# Altium footprint library Package_QFP.PcbLib: 99 footprints (part 2 of 7)
Each footprint in its own frame and in the unit in brackets; x right, y up, seen from the top. Pads: shape width x height; smd on the part's side, far side on the other; paste and mask are expansions set on the pad; w line width, h text height; cw(c..) or ccw(c..) is an arc to the next point about the centre after c.
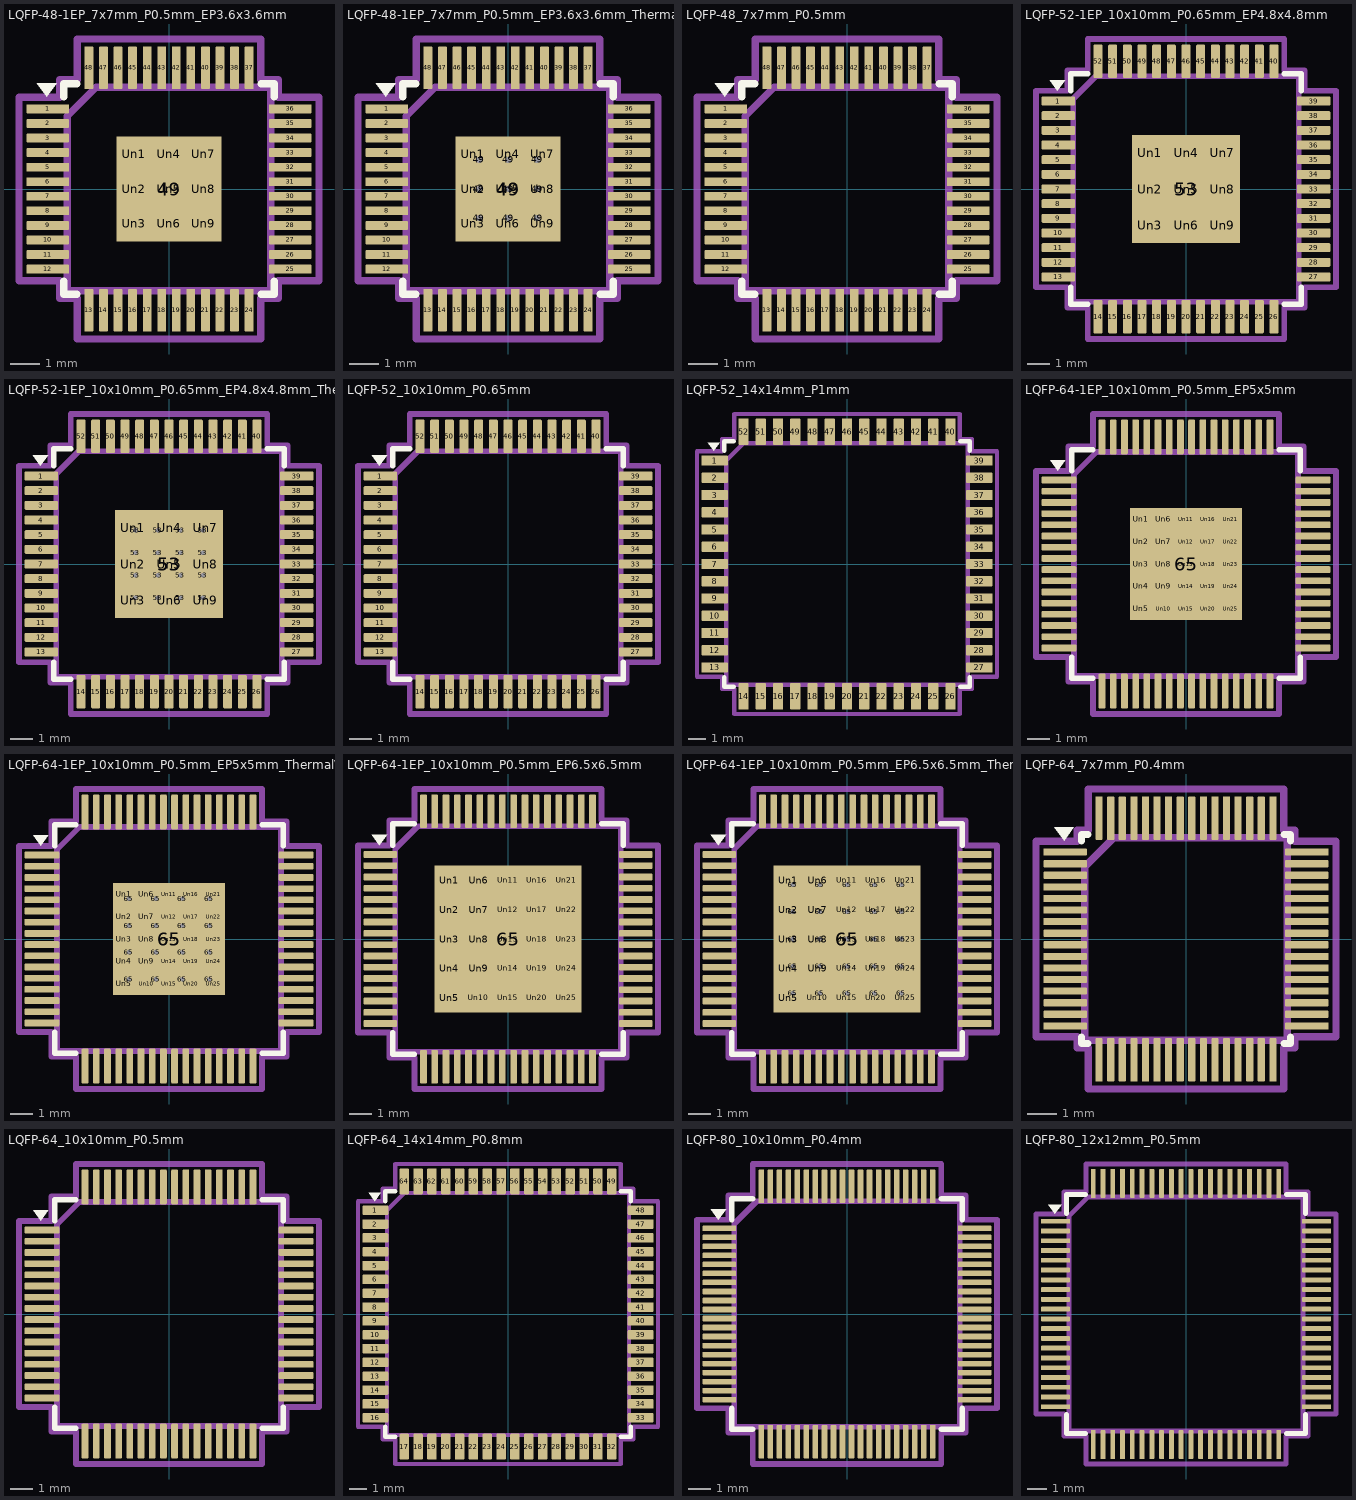
[diagram p1: the footprints below, top view; thin cyan lines are the x and y axes]

## LQFP-48-1EP_7x7mm_P0.5mm_EP3.6x3.6mm [mm]
pads (58):
  rrect25% 1.475x0.3 smd: 1(-4.163,2.75) 2(-4.163,2.25) 3(-4.163,1.75) 4(-4.163,1.25) 5(-4.163,0.75) 6(-4.163,0.25) 7(-4.163,-0.25) 8(-4.163,-0.75) 9(-4.163,-1.25) 10(-4.163,-1.75) 11(-4.163,-2.25) 12(-4.163,-2.75) 25(4.163,-2.75) 26(4.163,-2.25) 27(4.163,-1.75) 28(4.163,-1.25) 29(4.163,-0.75) 30(4.163,-0.25) 31(4.163,0.25) 32(4.163,0.75) 33(4.163,1.25) 34(4.163,1.75) 35(4.163,2.25) 36(4.163,2.75)
  rrect25% 0.3x1.475 smd: 13(-2.75,-4.163) 14(-2.25,-4.163) 15(-1.75,-4.163) 16(-1.25,-4.163) 17(-0.75,-4.163) 18(-0.25,-4.163) 19(0.25,-4.163) 20(0.75,-4.163) 21(1.25,-4.163) 22(1.75,-4.163) 23(2.25,-4.163) 24(2.75,-4.163) 37(2.75,4.163) 38(2.25,4.163) 39(1.75,4.163) 40(1.25,4.163) 41(0.75,4.163) 42(0.25,4.163) 43(-0.25,4.163) 44(-0.75,4.163) 45(-1.25,4.163) 46(-1.75,4.163) 47(-2.25,4.163) 48(-2.75,4.163)
  rect 3.6x3.6 smd: 49(0,0)
  rrect25% 0.97x0.97 on Top Paste: Un1(-1.2,1.2) Un2(-1.2,0) Un3(-1.2,-1.2) Un4(0,1.2) Un5(0,0) Un6(0,-1.2) Un7(1.2,1.2) Un8(1.2,0) Un9(1.2,-1.2)
F.SilkS:
  region: -4.2,3.16 -4.54,3.63 -3.86,3.63
  lines w0.254: -3.61,-3.16 -3.61,-3.61 -3.16,-3.61 ; -3.61,3.16 -3.61,3.61 -3.16,3.61 ; 3.16,-3.61 3.61,-3.61 3.61,-3.16 ; 3.16,3.61 3.61,3.61 3.61,3.16
Top Assembly:
  lines w0.254: -3.5,-3.5 3.5,-3.5 3.5,3.5 -2.5,3.5 -3.5,2.5 -3.5,-3.5
  text "'.Designator'" at -4.047,-0.84 h1
Top Courtyard:
  lines w0.254: -5.15,-3.15 -3.75,-3.15 -3.75,-3.75 -3.15,-3.75 -3.15,-5.15 3.15,-5.15 3.15,-3.75 3.75,-3.75 3.75,-3.15 5.15,-3.15 5.15,3.15 3.75,3.15 3.75,3.75 3.15,3.75 3.15,5.15 -3.15,5.15 -3.15,3.75 -3.75,3.75 -3.75,3.15 -5.15,3.15 -5.15,-3.15
Top Designator:
  text ".Designator" at -7.618,-0.508 h1.52

## LQFP-48-1EP_7x7mm_P0.5mm_EP3.6x3.6mm_ThermalVias [mm]
pads (68):
  rrect25% 1.475x0.3 smd: 1(-4.163,2.75) 2(-4.163,2.25) 3(-4.163,1.75) 4(-4.163,1.25) 5(-4.163,0.75) 6(-4.163,0.25) 7(-4.163,-0.25) 8(-4.163,-0.75) 9(-4.163,-1.25) 10(-4.163,-1.75) 11(-4.163,-2.25) 12(-4.163,-2.75) 25(4.163,-2.75) 26(4.163,-2.25) 27(4.163,-1.75) 28(4.163,-1.25) 29(4.163,-0.75) 30(4.163,-0.25) 31(4.163,0.25) 32(4.163,0.75) 33(4.163,1.25) 34(4.163,1.75) 35(4.163,2.25) 36(4.163,2.75)
  rrect25% 0.3x1.475 smd: 13(-2.75,-4.163) 14(-2.25,-4.163) 15(-1.75,-4.163) 16(-1.25,-4.163) 17(-0.75,-4.163) 18(-0.25,-4.163) 19(0.25,-4.163) 20(0.75,-4.163) 21(1.25,-4.163) 22(1.75,-4.163) 23(2.25,-4.163) 24(2.75,-4.163) 37(2.75,4.163) 38(2.25,4.163) 39(1.75,4.163) 40(1.25,4.163) 41(0.75,4.163) 42(0.25,4.163) 43(-0.25,4.163) 44(-0.75,4.163) 45(-1.25,4.163) 46(-1.75,4.163) 47(-2.25,4.163) 48(-2.75,4.163)
  round 0.5 hole 0.2: 49(-1,-1) 49(-1,0) 49(-1,1) 49(0,-1) 49(0,0) 49(0,1) 49(1,-1) 49(1,0) 49(1,1)
  rect 3.6x3.6 smd: 49(0,0)
  rect 2.5x2.5 smd far side: 49(0,0)
  rrect25% 0.97x0.97 on Top Paste: Un1(-1.2,1.2) Un2(-1.2,0) Un3(-1.2,-1.2) Un4(0,1.2) Un5(0,0) Un6(0,-1.2) Un7(1.2,1.2) Un8(1.2,0) Un9(1.2,-1.2)
F.SilkS:
  region: -4.2,3.16 -4.54,3.63 -3.86,3.63
  lines w0.254: -3.61,-3.16 -3.61,-3.61 -3.16,-3.61 ; -3.61,3.16 -3.61,3.61 -3.16,3.61 ; 3.16,-3.61 3.61,-3.61 3.61,-3.16 ; 3.16,3.61 3.61,3.61 3.61,3.16
Top Assembly:
  lines w0.254: -3.5,-3.5 3.5,-3.5 3.5,3.5 -2.5,3.5 -3.5,2.5 -3.5,-3.5
  text "'.Designator'" at -4.047,-0.84 h1
Top Courtyard:
  lines w0.254: -5.15,-3.15 -3.75,-3.15 -3.75,-3.75 -3.15,-3.75 -3.15,-5.15 3.15,-5.15 3.15,-3.75 3.75,-3.75 3.75,-3.15 5.15,-3.15 5.15,3.15 3.75,3.15 3.75,3.75 3.15,3.75 3.15,5.15 -3.15,5.15 -3.15,3.75 -3.75,3.75 -3.75,3.15 -5.15,3.15 -5.15,-3.15
Top Designator:
  text ".Designator" at -7.618,-0.508 h1.52

## LQFP-48_7x7mm_P0.5mm [mm]
pads (48):
  rrect25% 1.475x0.3 smd: 1(-4.163,2.75) 2(-4.163,2.25) 3(-4.163,1.75) 4(-4.163,1.25) 5(-4.163,0.75) 6(-4.163,0.25) 7(-4.163,-0.25) 8(-4.163,-0.75) 9(-4.163,-1.25) 10(-4.163,-1.75) 11(-4.163,-2.25) 12(-4.163,-2.75) 25(4.163,-2.75) 26(4.163,-2.25) 27(4.163,-1.75) 28(4.163,-1.25) 29(4.163,-0.75) 30(4.163,-0.25) 31(4.163,0.25) 32(4.163,0.75) 33(4.163,1.25) 34(4.163,1.75) 35(4.163,2.25) 36(4.163,2.75)
  rrect25% 0.3x1.475 smd: 13(-2.75,-4.163) 14(-2.25,-4.163) 15(-1.75,-4.163) 16(-1.25,-4.163) 17(-0.75,-4.163) 18(-0.25,-4.163) 19(0.25,-4.163) 20(0.75,-4.163) 21(1.25,-4.163) 22(1.75,-4.163) 23(2.25,-4.163) 24(2.75,-4.163) 37(2.75,4.163) 38(2.25,4.163) 39(1.75,4.163) 40(1.25,4.163) 41(0.75,4.163) 42(0.25,4.163) 43(-0.25,4.163) 44(-0.75,4.163) 45(-1.25,4.163) 46(-1.75,4.163) 47(-2.25,4.163) 48(-2.75,4.163)
F.SilkS:
  region: -4.2,3.16 -4.54,3.63 -3.86,3.63
  lines w0.254: -3.61,-3.16 -3.61,-3.61 -3.16,-3.61 ; -3.61,3.16 -3.61,3.61 -3.16,3.61 ; 3.16,-3.61 3.61,-3.61 3.61,-3.16 ; 3.16,3.61 3.61,3.61 3.61,3.16
Top Assembly:
  lines w0.254: -3.5,-3.5 3.5,-3.5 3.5,3.5 -2.5,3.5 -3.5,2.5 -3.5,-3.5
  text "'.Designator'" at -4.047,-0.84 h1
Top Courtyard:
  lines w0.254: -5.15,-3.15 -3.75,-3.15 -3.75,-3.75 -3.15,-3.75 -3.15,-5.15 3.15,-5.15 3.15,-3.75 3.75,-3.75 3.75,-3.15 5.15,-3.15 5.15,3.15 3.75,3.15 3.75,3.75 3.15,3.75 3.15,5.15 -3.15,5.15 -3.15,3.75 -3.75,3.75 -3.75,3.15 -5.15,3.15 -5.15,-3.15
Top Designator:
  text ".Designator" at -7.618,-0.508 h1.52

## LQFP-52-1EP_10x10mm_P0.65mm_EP4.8x4.8mm [mm]
pads (62):
  rrect25% 1.475x0.4 smd: 1(-5.663,3.9) 2(-5.663,3.25) 3(-5.663,2.6) 4(-5.663,1.95) 5(-5.663,1.3) 6(-5.663,0.65) 7(-5.663,0) 8(-5.663,-0.65) 9(-5.663,-1.3) 10(-5.663,-1.95) 11(-5.663,-2.6) 12(-5.663,-3.25) 13(-5.663,-3.9) 27(5.663,-3.9) 28(5.663,-3.25) 29(5.663,-2.6) 30(5.663,-1.95) 31(5.663,-1.3) 32(5.663,-0.65) 33(5.663,0) 34(5.663,0.65) 35(5.663,1.3) 36(5.663,1.95) 37(5.663,2.6) 38(5.663,3.25) 39(5.663,3.9)
  rrect25% 0.4x1.475 smd: 14(-3.9,-5.663) 15(-3.25,-5.663) 16(-2.6,-5.663) 17(-1.95,-5.663) 18(-1.3,-5.663) 19(-0.65,-5.663) 20(0,-5.663) 21(0.65,-5.663) 22(1.3,-5.663) 23(1.95,-5.663) 24(2.6,-5.663) 25(3.25,-5.663) 26(3.9,-5.663) 40(3.9,5.663) 41(3.25,5.663) 42(2.6,5.663) 43(1.95,5.663) 44(1.3,5.663) 45(0.65,5.663) 46(0,5.663) 47(-0.65,5.663) 48(-1.3,5.663) 49(-1.95,5.663) 50(-2.6,5.663) 51(-3.25,5.663) 52(-3.9,5.663)
  rect 4.8x4.8 smd: 53(0,0)
  rrect19% 1.29x1.29 on Top Paste: Un1(-1.6,1.6) Un2(-1.6,0) Un3(-1.6,-1.6) Un4(0,1.6) Un5(0,0) Un6(0,-1.6) Un7(1.6,1.6) Un8(1.6,0) Un9(1.6,-1.6)
F.SilkS:
  region: -5.7,4.36 -6.04,4.83 -5.36,4.83
  lines w0.254: -5.11,-4.36 -5.11,-5.11 -4.36,-5.11 ; -5.11,4.36 -5.11,5.11 -4.36,5.11 ; 4.36,-5.11 5.11,-5.11 5.11,-4.36 ; 4.36,5.11 5.11,5.11 5.11,4.36
Top Assembly:
  lines w0.254: -5,-5 5,-5 5,5 -4,5 -5,4 -5,-5
  text "'.Designator'" at -4.047,-0.84 h1
Top Courtyard:
  lines w0.254: -6.65,-4.35 -5.25,-4.35 -5.25,-5.25 -4.35,-5.25 -4.35,-6.65 4.35,-6.65 4.35,-5.25 5.25,-5.25 5.25,-4.35 6.65,-4.35 6.65,4.35 5.25,4.35 5.25,5.25 4.35,5.25 4.35,6.65 -4.35,6.65 -4.35,5.25 -5.25,5.25 -5.25,4.35 -6.65,4.35 -6.65,-4.35
Top Designator:
  text ".Designator" at -7.618,-0.508 h1.52

## LQFP-52-1EP_10x10mm_P0.65mm_EP4.8x4.8mm_ThermalVias [mm]
pads (79):
  rrect25% 1.475x0.4 smd: 1(-5.663,3.9) 2(-5.663,3.25) 3(-5.663,2.6) 4(-5.663,1.95) 5(-5.663,1.3) 6(-5.663,0.65) 7(-5.663,0) 8(-5.663,-0.65) 9(-5.663,-1.3) 10(-5.663,-1.95) 11(-5.663,-2.6) 12(-5.663,-3.25) 13(-5.663,-3.9) 27(5.663,-3.9) 28(5.663,-3.25) 29(5.663,-2.6) 30(5.663,-1.95) 31(5.663,-1.3) 32(5.663,-0.65) 33(5.663,0) 34(5.663,0.65) 35(5.663,1.3) 36(5.663,1.95) 37(5.663,2.6) 38(5.663,3.25) 39(5.663,3.9)
  rrect25% 0.4x1.475 smd: 14(-3.9,-5.663) 15(-3.25,-5.663) 16(-2.6,-5.663) 17(-1.95,-5.663) 18(-1.3,-5.663) 19(-0.65,-5.663) 20(0,-5.663) 21(0.65,-5.663) 22(1.3,-5.663) 23(1.95,-5.663) 24(2.6,-5.663) 25(3.25,-5.663) 26(3.9,-5.663) 40(3.9,5.663) 41(3.25,5.663) 42(2.6,5.663) 43(1.95,5.663) 44(1.3,5.663) 45(0.65,5.663) 46(0,5.663) 47(-0.65,5.663) 48(-1.3,5.663) 49(-1.95,5.663) 50(-2.6,5.663) 51(-3.25,5.663) 52(-3.9,5.663)
  round 0.5 hole 0.2: 53(-1.5,-1.5) 53(-1.5,-0.5) 53(-1.5,0.5) 53(-1.5,1.5) 53(-0.5,-1.5) 53(-0.5,-0.5) 53(-0.5,0.5) 53(-0.5,1.5) 53(0.5,-1.5) 53(0.5,-0.5) 53(0.5,0.5) 53(0.5,1.5) 53(1.5,-1.5) 53(1.5,-0.5) 53(1.5,0.5) 53(1.5,1.5)
  rect 4.8x4.8 smd: 53(0,0)
  rect 3.5x3.5 smd far side: 53(0,0)
  rrect19% 1.29x1.29 on Top Paste: Un1(-1.6,1.6) Un2(-1.6,0) Un3(-1.6,-1.6) Un4(0,1.6) Un5(0,0) Un6(0,-1.6) Un7(1.6,1.6) Un8(1.6,0) Un9(1.6,-1.6)
F.SilkS:
  region: -5.7,4.36 -6.04,4.83 -5.36,4.83
  lines w0.254: -5.11,-4.36 -5.11,-5.11 -4.36,-5.11 ; -5.11,4.36 -5.11,5.11 -4.36,5.11 ; 4.36,-5.11 5.11,-5.11 5.11,-4.36 ; 4.36,5.11 5.11,5.11 5.11,4.36
Top Assembly:
  lines w0.254: -5,-5 5,-5 5,5 -4,5 -5,4 -5,-5
  text "'.Designator'" at -4.047,-0.84 h1
Top Courtyard:
  lines w0.254: -6.65,-4.35 -5.25,-4.35 -5.25,-5.25 -4.35,-5.25 -4.35,-6.65 4.35,-6.65 4.35,-5.25 5.25,-5.25 5.25,-4.35 6.65,-4.35 6.65,4.35 5.25,4.35 5.25,5.25 4.35,5.25 4.35,6.65 -4.35,6.65 -4.35,5.25 -5.25,5.25 -5.25,4.35 -6.65,4.35 -6.65,-4.35
Top Designator:
  text ".Designator" at -7.618,-0.508 h1.52

## LQFP-52_10x10mm_P0.65mm [mm]
pads (52):
  rrect25% 1.475x0.4 smd: 1(-5.663,3.9) 2(-5.663,3.25) 3(-5.663,2.6) 4(-5.663,1.95) 5(-5.663,1.3) 6(-5.663,0.65) 7(-5.663,0) 8(-5.663,-0.65) 9(-5.663,-1.3) 10(-5.663,-1.95) 11(-5.663,-2.6) 12(-5.663,-3.25) 13(-5.663,-3.9) 27(5.663,-3.9) 28(5.663,-3.25) 29(5.663,-2.6) 30(5.663,-1.95) 31(5.663,-1.3) 32(5.663,-0.65) 33(5.663,0) 34(5.663,0.65) 35(5.663,1.3) 36(5.663,1.95) 37(5.663,2.6) 38(5.663,3.25) 39(5.663,3.9)
  rrect25% 0.4x1.475 smd: 14(-3.9,-5.663) 15(-3.25,-5.663) 16(-2.6,-5.663) 17(-1.95,-5.663) 18(-1.3,-5.663) 19(-0.65,-5.663) 20(0,-5.663) 21(0.65,-5.663) 22(1.3,-5.663) 23(1.95,-5.663) 24(2.6,-5.663) 25(3.25,-5.663) 26(3.9,-5.663) 40(3.9,5.663) 41(3.25,5.663) 42(2.6,5.663) 43(1.95,5.663) 44(1.3,5.663) 45(0.65,5.663) 46(0,5.663) 47(-0.65,5.663) 48(-1.3,5.663) 49(-1.95,5.663) 50(-2.6,5.663) 51(-3.25,5.663) 52(-3.9,5.663)
F.SilkS:
  region: -5.7,4.36 -6.04,4.83 -5.36,4.83
  lines w0.254: -5.11,-4.36 -5.11,-5.11 -4.36,-5.11 ; -5.11,4.36 -5.11,5.11 -4.36,5.11 ; 4.36,-5.11 5.11,-5.11 5.11,-4.36 ; 4.36,5.11 5.11,5.11 5.11,4.36
Top Assembly:
  lines w0.254: -5,-5 5,-5 5,5 -4,5 -5,4 -5,-5
  text "'.Designator'" at -4.047,-0.84 h1
Top Courtyard:
  lines w0.254: -6.65,-4.35 -5.25,-4.35 -5.25,-5.25 -4.35,-5.25 -4.35,-6.65 4.35,-6.65 4.35,-5.25 5.25,-5.25 5.25,-4.35 6.65,-4.35 6.65,4.35 5.25,4.35 5.25,5.25 4.35,5.25 4.35,6.65 -4.35,6.65 -4.35,5.25 -5.25,5.25 -5.25,4.35 -6.65,4.35 -6.65,-4.35
Top Designator:
  text ".Designator" at -7.618,-0.508 h1.52

## LQFP-52_14x14mm_P1mm [mm]
pads (52):
  rrect25% 1.55x0.6 smd: 1(-7.675,6) 2(-7.675,5) 3(-7.675,4) 4(-7.675,3) 5(-7.675,2) 6(-7.675,1) 7(-7.675,0) 8(-7.675,-1) 9(-7.675,-2) 10(-7.675,-3) 11(-7.675,-4) 12(-7.675,-5) 13(-7.675,-6) 27(7.675,-6) 28(7.675,-5) 29(7.675,-4) 30(7.675,-3) 31(7.675,-2) 32(7.675,-1) 33(7.675,0) 34(7.675,1) 35(7.675,2) 36(7.675,3) 37(7.675,4) 38(7.675,5) 39(7.675,6)
  rrect25% 0.6x1.55 smd: 14(-6,-7.675) 15(-5,-7.675) 16(-4,-7.675) 17(-3,-7.675) 18(-2,-7.675) 19(-1,-7.675) 20(0,-7.675) 21(1,-7.675) 22(2,-7.675) 23(3,-7.675) 24(4,-7.675) 25(5,-7.675) 26(6,-7.675) 40(6,7.675) 41(5,7.675) 42(4,7.675) 43(3,7.675) 44(2,7.675) 45(1,7.675) 46(0,7.675) 47(-1,7.675) 48(-2,7.675) 49(-3,7.675) 50(-4,7.675) 51(-5,7.675) 52(-6,7.675)
F.SilkS:
  region: -7.725,6.56 -8.065,7.03 -7.385,7.03
  lines w0.254: -7.11,-6.56 -7.11,-7.11 -6.56,-7.11 ; -7.11,6.56 -7.11,7.11 -6.56,7.11 ; 6.56,-7.11 7.11,-7.11 7.11,-6.56 ; 6.56,7.11 7.11,7.11 7.11,6.56
Top Assembly:
  lines w0.254: -7,-7 7,-7 7,7 -6,7 -7,6 -7,-7
  text "'.Designator'" at -4.047,-0.84 h1
Top Courtyard:
  lines w0.254: -8.7,-6.55 -7.25,-6.55 -7.25,-7.25 -6.55,-7.25 -6.55,-8.7 6.55,-8.7 6.55,-7.25 7.25,-7.25 7.25,-6.55 8.7,-6.55 8.7,6.55 7.25,6.55 7.25,7.25 6.55,7.25 6.55,8.7 -6.55,8.7 -6.55,7.25 -7.25,7.25 -7.25,6.55 -8.7,6.55 -8.7,-6.55
Top Designator:
  text ".Designator" at -7.618,-0.508 h1.52

## LQFP-64-1EP_10x10mm_P0.5mm_EP5x5mm [mm]
pads (90):
  rrect25% 1.55x0.3 smd: 1(-5.675,3.75) 2(-5.675,3.25) 3(-5.675,2.75) 4(-5.675,2.25) 5(-5.675,1.75) 6(-5.675,1.25) 7(-5.675,0.75) 8(-5.675,0.25) 9(-5.675,-0.25) 10(-5.675,-0.75) 11(-5.675,-1.25) 12(-5.675,-1.75) 13(-5.675,-2.25) 14(-5.675,-2.75) 15(-5.675,-3.25) 16(-5.675,-3.75) 33(5.675,-3.75) 34(5.675,-3.25) 35(5.675,-2.75) 36(5.675,-2.25) 37(5.675,-1.75) 38(5.675,-1.25) 39(5.675,-0.75) 40(5.675,-0.25) 41(5.675,0.25) 42(5.675,0.75) 43(5.675,1.25) 44(5.675,1.75) 45(5.675,2.25) 46(5.675,2.75) 47(5.675,3.25) 48(5.675,3.75)
  rrect25% 0.3x1.55 smd: 17(-3.75,-5.675) 18(-3.25,-5.675) 19(-2.75,-5.675) 20(-2.25,-5.675) 21(-1.75,-5.675) 22(-1.25,-5.675) 23(-0.75,-5.675) 24(-0.25,-5.675) 25(0.25,-5.675) 26(0.75,-5.675) 27(1.25,-5.675) 28(1.75,-5.675) 29(2.25,-5.675) 30(2.75,-5.675) 31(3.25,-5.675) 32(3.75,-5.675) 49(3.75,5.675) 50(3.25,5.675) 51(2.75,5.675) 52(2.25,5.675) 53(1.75,5.675) 54(1.25,5.675) 55(0.75,5.675) 56(0.25,5.675) 57(-0.25,5.675) 58(-0.75,5.675) 59(-1.25,5.675) 60(-1.75,5.675) 61(-2.25,5.675) 62(-2.75,5.675) 63(-3.25,5.675) 64(-3.75,5.675)
  rect 5x5 smd: 65(0,0)
  rrect25% 0.81x0.81 on Top Paste: Un1(-2,2) Un2(-2,1) Un3(-2,0) Un4(-2,-1) Un5(-2,-2) Un6(-1,2) Un7(-1,1) Un8(-1,0) Un9(-1,-1) Un10(-1,-2) Un11(0,2) Un12(0,1) Un13(0,0) Un14(0,-1) Un15(0,-2) Un16(1,2) Un17(1,1) Un18(1,0) Un19(1,-1) Un20(1,-2) Un21(2,2) Un22(2,1) Un23(2,0) Un24(2,-1) Un25(2,-2)
F.SilkS:
  region: -5.725,4.16 -6.065,4.63 -5.385,4.63
  lines w0.254: -5.11,-4.16 -5.11,-5.11 -4.16,-5.11 ; -5.11,4.16 -5.11,5.11 -4.16,5.11 ; 4.16,-5.11 5.11,-5.11 5.11,-4.16 ; 4.16,5.11 5.11,5.11 5.11,4.16
Top Assembly:
  lines w0.254: -5,-5 5,-5 5,5 -4,5 -5,4 -5,-5
  text "'.Designator'" at -4.047,-0.84 h1
Top Courtyard:
  lines w0.254: -6.7,-4.15 -5.25,-4.15 -5.25,-5.25 -4.15,-5.25 -4.15,-6.7 4.15,-6.7 4.15,-5.25 5.25,-5.25 5.25,-4.15 6.7,-4.15 6.7,4.15 5.25,4.15 5.25,5.25 4.15,5.25 4.15,6.7 -4.15,6.7 -4.15,5.25 -5.25,5.25 -5.25,4.15 -6.7,4.15 -6.7,-4.15
Top Designator:
  text ".Designator" at -7.618,-0.508 h1.52

## LQFP-64-1EP_10x10mm_P0.5mm_EP5x5mm_ThermalVias [mm]
pads (107):
  rrect25% 1.55x0.3 smd: 1(-5.675,3.75) 2(-5.675,3.25) 3(-5.675,2.75) 4(-5.675,2.25) 5(-5.675,1.75) 6(-5.675,1.25) 7(-5.675,0.75) 8(-5.675,0.25) 9(-5.675,-0.25) 10(-5.675,-0.75) 11(-5.675,-1.25) 12(-5.675,-1.75) 13(-5.675,-2.25) 14(-5.675,-2.75) 15(-5.675,-3.25) 16(-5.675,-3.75) 33(5.675,-3.75) 34(5.675,-3.25) 35(5.675,-2.75) 36(5.675,-2.25) 37(5.675,-1.75) 38(5.675,-1.25) 39(5.675,-0.75) 40(5.675,-0.25) 41(5.675,0.25) 42(5.675,0.75) 43(5.675,1.25) 44(5.675,1.75) 45(5.675,2.25) 46(5.675,2.75) 47(5.675,3.25) 48(5.675,3.75)
  rrect25% 0.3x1.55 smd: 17(-3.75,-5.675) 18(-3.25,-5.675) 19(-2.75,-5.675) 20(-2.25,-5.675) 21(-1.75,-5.675) 22(-1.25,-5.675) 23(-0.75,-5.675) 24(-0.25,-5.675) 25(0.25,-5.675) 26(0.75,-5.675) 27(1.25,-5.675) 28(1.75,-5.675) 29(2.25,-5.675) 30(2.75,-5.675) 31(3.25,-5.675) 32(3.75,-5.675) 49(3.75,5.675) 50(3.25,5.675) 51(2.75,5.675) 52(2.25,5.675) 53(1.75,5.675) 54(1.25,5.675) 55(0.75,5.675) 56(0.25,5.675) 57(-0.25,5.675) 58(-0.75,5.675) 59(-1.25,5.675) 60(-1.75,5.675) 61(-2.25,5.675) 62(-2.75,5.675) 63(-3.25,5.675) 64(-3.75,5.675)
  round 0.5 hole 0.2: 65(-1.8,-1.8) 65(-1.8,-0.6) 65(-1.8,0.6) 65(-1.8,1.8) 65(-0.6,-1.8) 65(-0.6,-0.6) 65(-0.6,0.6) 65(-0.6,1.8) 65(0.6,-1.8) 65(0.6,-0.6) 65(0.6,0.6) 65(0.6,1.8) 65(1.8,-1.8) 65(1.8,-0.6) 65(1.8,0.6) 65(1.8,1.8)
  rect 5x5 smd: 65(0,0)
  rect 4.1x4.1 smd far side: 65(0,0)
  rrect25% 0.81x0.81 on Top Paste: Un1(-2,2) Un2(-2,1) Un3(-2,0) Un4(-2,-1) Un5(-2,-2) Un6(-1,2) Un7(-1,1) Un8(-1,0) Un9(-1,-1) Un10(-1,-2) Un11(0,2) Un12(0,1) Un13(0,0) Un14(0,-1) Un15(0,-2) Un16(1,2) Un17(1,1) Un18(1,0) Un19(1,-1) Un20(1,-2) Un21(2,2) Un22(2,1) Un23(2,0) Un24(2,-1) Un25(2,-2)
F.SilkS:
  region: -5.725,4.16 -6.065,4.63 -5.385,4.63
  lines w0.254: -5.11,-4.16 -5.11,-5.11 -4.16,-5.11 ; -5.11,4.16 -5.11,5.11 -4.16,5.11 ; 4.16,-5.11 5.11,-5.11 5.11,-4.16 ; 4.16,5.11 5.11,5.11 5.11,4.16
Top Assembly:
  lines w0.254: -5,-5 5,-5 5,5 -4,5 -5,4 -5,-5
  text "'.Designator'" at -4.047,-0.84 h1
Top Courtyard:
  lines w0.254: -6.7,-4.15 -5.25,-4.15 -5.25,-5.25 -4.15,-5.25 -4.15,-6.7 4.15,-6.7 4.15,-5.25 5.25,-5.25 5.25,-4.15 6.7,-4.15 6.7,4.15 5.25,4.15 5.25,5.25 4.15,5.25 4.15,6.7 -4.15,6.7 -4.15,5.25 -5.25,5.25 -5.25,4.15 -6.7,4.15 -6.7,-4.15
Top Designator:
  text ".Designator" at -7.618,-0.508 h1.52

## LQFP-64-1EP_10x10mm_P0.5mm_EP6.5x6.5mm [mm]
pads (90):
  rrect25% 1.475x0.3 smd: 1(-5.663,3.75) 2(-5.663,3.25) 3(-5.663,2.75) 4(-5.663,2.25) 5(-5.663,1.75) 6(-5.663,1.25) 7(-5.663,0.75) 8(-5.663,0.25) 9(-5.663,-0.25) 10(-5.663,-0.75) 11(-5.663,-1.25) 12(-5.663,-1.75) 13(-5.663,-2.25) 14(-5.663,-2.75) 15(-5.663,-3.25) 16(-5.663,-3.75) 33(5.663,-3.75) 34(5.663,-3.25) 35(5.663,-2.75) 36(5.663,-2.25) 37(5.663,-1.75) 38(5.663,-1.25) 39(5.663,-0.75) 40(5.663,-0.25) 41(5.663,0.25) 42(5.663,0.75) 43(5.663,1.25) 44(5.663,1.75) 45(5.663,2.25) 46(5.663,2.75) 47(5.663,3.25) 48(5.663,3.75)
  rrect25% 0.3x1.475 smd: 17(-3.75,-5.663) 18(-3.25,-5.663) 19(-2.75,-5.663) 20(-2.25,-5.663) 21(-1.75,-5.663) 22(-1.25,-5.663) 23(-0.75,-5.663) 24(-0.25,-5.663) 25(0.25,-5.663) 26(0.75,-5.663) 27(1.25,-5.663) 28(1.75,-5.663) 29(2.25,-5.663) 30(2.75,-5.663) 31(3.25,-5.663) 32(3.75,-5.663) 49(3.75,5.663) 50(3.25,5.663) 51(2.75,5.663) 52(2.25,5.663) 53(1.75,5.663) 54(1.25,5.663) 55(0.75,5.663) 56(0.25,5.663) 57(-0.25,5.663) 58(-0.75,5.663) 59(-1.25,5.663) 60(-1.75,5.663) 61(-2.25,5.663) 62(-2.75,5.663) 63(-3.25,5.663) 64(-3.75,5.663)
  rect 6.5x6.5 smd: 65(0,0)
  rrect24% 1.05x1.05 on Top Paste: Un1(-2.6,2.6) Un2(-2.6,1.3) Un3(-2.6,0) Un4(-2.6,-1.3) Un5(-2.6,-2.6) Un6(-1.3,2.6) Un7(-1.3,1.3) Un8(-1.3,0) Un9(-1.3,-1.3) Un10(-1.3,-2.6) Un11(0,2.6) Un12(0,1.3) Un13(0,0) Un14(0,-1.3) Un15(0,-2.6) Un16(1.3,2.6) Un17(1.3,1.3) Un18(1.3,0) Un19(1.3,-1.3) Un20(1.3,-2.6) Un21(2.6,2.6) Un22(2.6,1.3) Un23(2.6,0) Un24(2.6,-1.3) Un25(2.6,-2.6)
F.SilkS:
  region: -5.7,4.16 -6.04,4.63 -5.36,4.63
  lines w0.254: -5.11,-4.16 -5.11,-5.11 -4.16,-5.11 ; -5.11,4.16 -5.11,5.11 -4.16,5.11 ; 4.16,-5.11 5.11,-5.11 5.11,-4.16 ; 4.16,5.11 5.11,5.11 5.11,4.16
Top Assembly:
  lines w0.254: -5,-5 5,-5 5,5 -4,5 -5,4 -5,-5
  text "'.Designator'" at -4.047,-0.84 h1
Top Courtyard:
  lines w0.254: -6.65,-4.15 -5.25,-4.15 -5.25,-5.25 -4.15,-5.25 -4.15,-6.65 4.15,-6.65 4.15,-5.25 5.25,-5.25 5.25,-4.15 6.65,-4.15 6.65,4.15 5.25,4.15 5.25,5.25 4.15,5.25 4.15,6.65 -4.15,6.65 -4.15,5.25 -5.25,5.25 -5.25,4.15 -6.65,4.15 -6.65,-4.15
Top Designator:
  text ".Designator" at -7.618,-0.508 h1.52

## LQFP-64-1EP_10x10mm_P0.5mm_EP6.5x6.5mm_ThermalVias [mm]
pads (116):
  rrect25% 1.475x0.3 smd: 1(-5.663,3.75) 2(-5.663,3.25) 3(-5.663,2.75) 4(-5.663,2.25) 5(-5.663,1.75) 6(-5.663,1.25) 7(-5.663,0.75) 8(-5.663,0.25) 9(-5.663,-0.25) 10(-5.663,-0.75) 11(-5.663,-1.25) 12(-5.663,-1.75) 13(-5.663,-2.25) 14(-5.663,-2.75) 15(-5.663,-3.25) 16(-5.663,-3.75) 33(5.663,-3.75) 34(5.663,-3.25) 35(5.663,-2.75) 36(5.663,-2.25) 37(5.663,-1.75) 38(5.663,-1.25) 39(5.663,-0.75) 40(5.663,-0.25) 41(5.663,0.25) 42(5.663,0.75) 43(5.663,1.25) 44(5.663,1.75) 45(5.663,2.25) 46(5.663,2.75) 47(5.663,3.25) 48(5.663,3.75)
  rrect25% 0.3x1.475 smd: 17(-3.75,-5.663) 18(-3.25,-5.663) 19(-2.75,-5.663) 20(-2.25,-5.663) 21(-1.75,-5.663) 22(-1.25,-5.663) 23(-0.75,-5.663) 24(-0.25,-5.663) 25(0.25,-5.663) 26(0.75,-5.663) 27(1.25,-5.663) 28(1.75,-5.663) 29(2.25,-5.663) 30(2.75,-5.663) 31(3.25,-5.663) 32(3.75,-5.663) 49(3.75,5.663) 50(3.25,5.663) 51(2.75,5.663) 52(2.25,5.663) 53(1.75,5.663) 54(1.25,5.663) 55(0.75,5.663) 56(0.25,5.663) 57(-0.25,5.663) 58(-0.75,5.663) 59(-1.25,5.663) 60(-1.75,5.663) 61(-2.25,5.663) 62(-2.75,5.663) 63(-3.25,5.663) 64(-3.75,5.663)
  round 0.5 hole 0.2: 65(-2.4,-2.4) 65(-2.4,-1.2) 65(-2.4,0) 65(-2.4,1.2) 65(-2.4,2.4) 65(-1.2,-2.4) 65(-1.2,-1.2) 65(-1.2,0) 65(-1.2,1.2) 65(-1.2,2.4) 65(0,-2.4) 65(0,-1.2) 65(0,0) 65(0,1.2) 65(0,2.4) 65(1.2,-2.4) 65(1.2,-1.2) 65(1.2,0) 65(1.2,1.2) 65(1.2,2.4) 65(2.4,-2.4) 65(2.4,-1.2) 65(2.4,0) 65(2.4,1.2) 65(2.4,2.4)
  rect 6.5x6.5 smd: 65(0,0)
  rect 5.3x5.3 smd far side: 65(0,0)
  rrect24% 1.05x1.05 on Top Paste: Un1(-2.6,2.6) Un2(-2.6,1.3) Un3(-2.6,0) Un4(-2.6,-1.3) Un5(-2.6,-2.6) Un6(-1.3,2.6) Un7(-1.3,1.3) Un8(-1.3,0) Un9(-1.3,-1.3) Un10(-1.3,-2.6) Un11(0,2.6) Un12(0,1.3) Un13(0,0) Un14(0,-1.3) Un15(0,-2.6) Un16(1.3,2.6) Un17(1.3,1.3) Un18(1.3,0) Un19(1.3,-1.3) Un20(1.3,-2.6) Un21(2.6,2.6) Un22(2.6,1.3) Un23(2.6,0) Un24(2.6,-1.3) Un25(2.6,-2.6)
F.SilkS:
  region: -5.7,4.16 -6.04,4.63 -5.36,4.63
  lines w0.254: -5.11,-4.16 -5.11,-5.11 -4.16,-5.11 ; -5.11,4.16 -5.11,5.11 -4.16,5.11 ; 4.16,-5.11 5.11,-5.11 5.11,-4.16 ; 4.16,5.11 5.11,5.11 5.11,4.16
Top Assembly:
  lines w0.254: -5,-5 5,-5 5,5 -4,5 -5,4 -5,-5
  text "'.Designator'" at -4.047,-0.84 h1
Top Courtyard:
  lines w0.254: -6.65,-4.15 -5.25,-4.15 -5.25,-5.25 -4.15,-5.25 -4.15,-6.65 4.15,-6.65 4.15,-5.25 5.25,-5.25 5.25,-4.15 6.65,-4.15 6.65,4.15 5.25,4.15 5.25,5.25 4.15,5.25 4.15,6.65 -4.15,6.65 -4.15,5.25 -5.25,5.25 -5.25,4.15 -6.65,4.15 -6.65,-4.15
Top Designator:
  text ".Designator" at -7.618,-0.508 h1.52

## LQFP-64_7x7mm_P0.4mm [mm]
pads (64):
  rrect25% 1.5x0.25 smd: 1(-4.175,3) 2(-4.175,2.6) 3(-4.175,2.2) 4(-4.175,1.8) 5(-4.175,1.4) 6(-4.175,1) 7(-4.175,0.6) 8(-4.175,0.2) 9(-4.175,-0.2) 10(-4.175,-0.6) 11(-4.175,-1) 12(-4.175,-1.4) 13(-4.175,-1.8) 14(-4.175,-2.2) 15(-4.175,-2.6) 16(-4.175,-3) 33(4.175,-3) 34(4.175,-2.6) 35(4.175,-2.2) 36(4.175,-1.8) 37(4.175,-1.4) 38(4.175,-1) 39(4.175,-0.6) 40(4.175,-0.2) 41(4.175,0.2) 42(4.175,0.6) 43(4.175,1) 44(4.175,1.4) 45(4.175,1.8) 46(4.175,2.2) 47(4.175,2.6) 48(4.175,3)
  rrect25% 0.25x1.5 smd: 17(-3,-4.175) 18(-2.6,-4.175) 19(-2.2,-4.175) 20(-1.8,-4.175) 21(-1.4,-4.175) 22(-1,-4.175) 23(-0.6,-4.175) 24(-0.2,-4.175) 25(0.2,-4.175) 26(0.6,-4.175) 27(1,-4.175) 28(1.4,-4.175) 29(1.8,-4.175) 30(2.2,-4.175) 31(2.6,-4.175) 32(3,-4.175) 49(3,4.175) 50(2.6,4.175) 51(2.2,4.175) 52(1.8,4.175) 53(1.4,4.175) 54(1,4.175) 55(0.6,4.175) 56(0.2,4.175) 57(-0.2,4.175) 58(-0.6,4.175) 59(-1,4.175) 60(-1.4,4.175) 61(-1.8,4.175) 62(-2.2,4.175) 63(-2.6,4.175) 64(-3,4.175)
F.SilkS:
  region: -4.213,3.385 -4.553,3.855 -3.872,3.855
  lines w0.254: -3.61,-3.385 -3.61,-3.61 -3.385,-3.61 ; -3.61,3.385 -3.61,3.61 -3.385,3.61 ; 3.385,-3.61 3.61,-3.61 3.61,-3.385 ; 3.385,3.61 3.61,3.61 3.61,3.385
Top Assembly:
  lines w0.254: -3.5,-3.5 3.5,-3.5 3.5,3.5 -2.5,3.5 -3.5,2.5 -3.5,-3.5
  text "'.Designator'" at -4.047,-0.84 h1
Top Courtyard:
  lines w0.254: -5.18,-3.38 -3.75,-3.38 -3.75,-3.75 -3.38,-3.75 -3.38,-5.18 3.38,-5.18 3.38,-3.75 3.75,-3.75 3.75,-3.38 5.18,-3.38 5.18,3.38 3.75,3.38 3.75,3.75 3.38,3.75 3.38,5.18 -3.38,5.18 -3.38,3.75 -3.75,3.75 -3.75,3.38 -5.18,3.38 -5.18,-3.38
Top Designator:
  text ".Designator" at -7.618,-0.508 h1.52

## LQFP-64_10x10mm_P0.5mm [mm]
pads (64):
  rrect25% 1.55x0.3 smd: 1(-5.675,3.75) 2(-5.675,3.25) 3(-5.675,2.75) 4(-5.675,2.25) 5(-5.675,1.75) 6(-5.675,1.25) 7(-5.675,0.75) 8(-5.675,0.25) 9(-5.675,-0.25) 10(-5.675,-0.75) 11(-5.675,-1.25) 12(-5.675,-1.75) 13(-5.675,-2.25) 14(-5.675,-2.75) 15(-5.675,-3.25) 16(-5.675,-3.75) 33(5.675,-3.75) 34(5.675,-3.25) 35(5.675,-2.75) 36(5.675,-2.25) 37(5.675,-1.75) 38(5.675,-1.25) 39(5.675,-0.75) 40(5.675,-0.25) 41(5.675,0.25) 42(5.675,0.75) 43(5.675,1.25) 44(5.675,1.75) 45(5.675,2.25) 46(5.675,2.75) 47(5.675,3.25) 48(5.675,3.75)
  rrect25% 0.3x1.55 smd: 17(-3.75,-5.675) 18(-3.25,-5.675) 19(-2.75,-5.675) 20(-2.25,-5.675) 21(-1.75,-5.675) 22(-1.25,-5.675) 23(-0.75,-5.675) 24(-0.25,-5.675) 25(0.25,-5.675) 26(0.75,-5.675) 27(1.25,-5.675) 28(1.75,-5.675) 29(2.25,-5.675) 30(2.75,-5.675) 31(3.25,-5.675) 32(3.75,-5.675) 49(3.75,5.675) 50(3.25,5.675) 51(2.75,5.675) 52(2.25,5.675) 53(1.75,5.675) 54(1.25,5.675) 55(0.75,5.675) 56(0.25,5.675) 57(-0.25,5.675) 58(-0.75,5.675) 59(-1.25,5.675) 60(-1.75,5.675) 61(-2.25,5.675) 62(-2.75,5.675) 63(-3.25,5.675) 64(-3.75,5.675)
F.SilkS:
  region: -5.725,4.16 -6.065,4.63 -5.385,4.63
  lines w0.254: -5.11,-4.16 -5.11,-5.11 -4.16,-5.11 ; -5.11,4.16 -5.11,5.11 -4.16,5.11 ; 4.16,-5.11 5.11,-5.11 5.11,-4.16 ; 4.16,5.11 5.11,5.11 5.11,4.16
Top Assembly:
  lines w0.254: -5,-5 5,-5 5,5 -4,5 -5,4 -5,-5
  text "'.Designator'" at -4.047,-0.84 h1
Top Courtyard:
  lines w0.254: -6.7,-4.15 -5.25,-4.15 -5.25,-5.25 -4.15,-5.25 -4.15,-6.7 4.15,-6.7 4.15,-5.25 5.25,-5.25 5.25,-4.15 6.7,-4.15 6.7,4.15 5.25,4.15 5.25,5.25 4.15,5.25 4.15,6.7 -4.15,6.7 -4.15,5.25 -5.25,5.25 -5.25,4.15 -6.7,4.15 -6.7,-4.15
Top Designator:
  text ".Designator" at -7.618,-0.508 h1.52

## LQFP-64_14x14mm_P0.8mm [mm]
pads (64):
  rrect25% 1.5x0.55 smd: 1(-7.675,6) 2(-7.675,5.2) 3(-7.675,4.4) 4(-7.675,3.6) 5(-7.675,2.8) 6(-7.675,2) 7(-7.675,1.2) 8(-7.675,0.4) 9(-7.675,-0.4) 10(-7.675,-1.2) 11(-7.675,-2) 12(-7.675,-2.8) 13(-7.675,-3.6) 14(-7.675,-4.4) 15(-7.675,-5.2) 16(-7.675,-6) 33(7.675,-6) 34(7.675,-5.2) 35(7.675,-4.4) 36(7.675,-3.6) 37(7.675,-2.8) 38(7.675,-2) 39(7.675,-1.2) 40(7.675,-0.4) 41(7.675,0.4) 42(7.675,1.2) 43(7.675,2) 44(7.675,2.8) 45(7.675,3.6) 46(7.675,4.4) 47(7.675,5.2) 48(7.675,6)
  rrect25% 0.55x1.5 smd: 17(-6,-7.675) 18(-5.2,-7.675) 19(-4.4,-7.675) 20(-3.6,-7.675) 21(-2.8,-7.675) 22(-2,-7.675) 23(-1.2,-7.675) 24(-0.4,-7.675) 25(0.4,-7.675) 26(1.2,-7.675) 27(2,-7.675) 28(2.8,-7.675) 29(3.6,-7.675) 30(4.4,-7.675) 31(5.2,-7.675) 32(6,-7.675) 49(6,7.675) 50(5.2,7.675) 51(4.4,7.675) 52(3.6,7.675) 53(2.8,7.675) 54(2,7.675) 55(1.2,7.675) 56(0.4,7.675) 57(-0.4,7.675) 58(-1.2,7.675) 59(-2,7.675) 60(-2.8,7.675) 61(-3.6,7.675) 62(-4.4,7.675) 63(-5.2,7.675) 64(-6,7.675)
F.SilkS:
  region: -7.712,6.535 -8.053,7.005 -7.372,7.005
  lines w0.254: -7.11,-6.535 -7.11,-7.11 -6.535,-7.11 ; -7.11,6.535 -7.11,7.11 -6.535,7.11 ; 6.535,-7.11 7.11,-7.11 7.11,-6.535 ; 6.535,7.11 7.11,7.11 7.11,6.535
Top Assembly:
  lines w0.254: -7,-7 7,-7 7,7 -6,7 -7,6 -7,-7
  text "'.Designator'" at -4.047,-0.84 h1
Top Courtyard:
  lines w0.254: -8.68,-6.53 -7.25,-6.53 -7.25,-7.25 -6.53,-7.25 -6.53,-8.68 6.53,-8.68 6.53,-7.25 7.25,-7.25 7.25,-6.53 8.68,-6.53 8.68,6.53 7.25,6.53 7.25,7.25 6.53,7.25 6.53,8.68 -6.53,8.68 -6.53,7.25 -7.25,7.25 -7.25,6.53 -8.68,6.53 -8.68,-6.53
Top Designator:
  text ".Designator" at -7.618,-0.508 h1.52

## LQFP-80_10x10mm_P0.4mm [mm]
pads (80):
  rrect25% 1.475x0.25 smd: 1(-5.663,3.8) 2(-5.663,3.4) 3(-5.663,3) 4(-5.663,2.6) 5(-5.663,2.2) 6(-5.663,1.8) 7(-5.663,1.4) 8(-5.663,1) 9(-5.663,0.6) 10(-5.663,0.2) 11(-5.663,-0.2) 12(-5.663,-0.6) 13(-5.663,-1) 14(-5.663,-1.4) 15(-5.663,-1.8) 16(-5.663,-2.2) 17(-5.663,-2.6) 18(-5.663,-3) 19(-5.663,-3.4) 20(-5.663,-3.8) 41(5.663,-3.8) 42(5.663,-3.4) 43(5.663,-3) 44(5.663,-2.6) 45(5.663,-2.2) 46(5.663,-1.8) 47(5.663,-1.4) 48(5.663,-1) 49(5.663,-0.6) 50(5.663,-0.2) 51(5.663,0.2) 52(5.663,0.6) 53(5.663,1) 54(5.663,1.4) 55(5.663,1.8) 56(5.663,2.2) 57(5.663,2.6) 58(5.663,3) 59(5.663,3.4) 60(5.663,3.8)
  rrect25% 0.25x1.475 smd: 21(-3.8,-5.663) 22(-3.4,-5.663) 23(-3,-5.663) 24(-2.6,-5.663) 25(-2.2,-5.663) 26(-1.8,-5.663) 27(-1.4,-5.663) 28(-1,-5.663) 29(-0.6,-5.663) 30(-0.2,-5.663) 31(0.2,-5.663) 32(0.6,-5.663) 33(1,-5.663) 34(1.4,-5.663) 35(1.8,-5.663) 36(2.2,-5.663) 37(2.6,-5.663) 38(3,-5.663) 39(3.4,-5.663) 40(3.8,-5.663) 61(3.8,5.663) 62(3.4,5.663) 63(3,5.663) 64(2.6,5.663) 65(2.2,5.663) 66(1.8,5.663) 67(1.4,5.663) 68(1,5.663) 69(0.6,5.663) 70(0.2,5.663) 71(-0.2,5.663) 72(-0.6,5.663) 73(-1,5.663) 74(-1.4,5.663) 75(-1.8,5.663) 76(-2.2,5.663) 77(-2.6,5.663) 78(-3,5.663) 79(-3.4,5.663) 80(-3.8,5.663)
F.SilkS:
  region: -5.7,4.185 -6.04,4.655 -5.36,4.655
  lines w0.254: -5.11,-4.185 -5.11,-5.11 -4.185,-5.11 ; -5.11,4.185 -5.11,5.11 -4.185,5.11 ; 4.185,-5.11 5.11,-5.11 5.11,-4.185 ; 4.185,5.11 5.11,5.11 5.11,4.185
Top Assembly:
  lines w0.254: -5,-5 5,-5 5,5 -4,5 -5,4 -5,-5
  text "'.Designator'" at -4.047,-0.84 h1
Top Courtyard:
  lines w0.254: -6.65,-4.18 -5.25,-4.18 -5.25,-5.25 -4.18,-5.25 -4.18,-6.65 4.18,-6.65 4.18,-5.25 5.25,-5.25 5.25,-4.18 6.65,-4.18 6.65,4.18 5.25,4.18 5.25,5.25 4.18,5.25 4.18,6.65 -4.18,6.65 -4.18,5.25 -5.25,5.25 -5.25,4.18 -6.65,4.18 -6.65,-4.18
Top Designator:
  text ".Designator" at -7.618,-0.508 h1.52

## LQFP-80_12x12mm_P0.5mm [mm]
pads (80):
  rrect25% 1.475x0.25 smd: 1(-6.687,4.75) 2(-6.687,4.25) 3(-6.687,3.75) 4(-6.687,3.25) 5(-6.687,2.75) 6(-6.687,2.25) 7(-6.687,1.75) 8(-6.687,1.25) 9(-6.687,0.75) 10(-6.687,0.25) 11(-6.687,-0.25) 12(-6.687,-0.75) 13(-6.687,-1.25) 14(-6.687,-1.75) 15(-6.687,-2.25) 16(-6.687,-2.75) 17(-6.687,-3.25) 18(-6.687,-3.75) 19(-6.687,-4.25) 20(-6.687,-4.75) 41(6.687,-4.75) 42(6.687,-4.25) 43(6.687,-3.75) 44(6.687,-3.25) 45(6.687,-2.75) 46(6.687,-2.25) 47(6.687,-1.75) 48(6.687,-1.25) 49(6.687,-0.75) 50(6.687,-0.25) 51(6.687,0.25) 52(6.687,0.75) 53(6.687,1.25) 54(6.687,1.75) 55(6.687,2.25) 56(6.687,2.75) 57(6.687,3.25) 58(6.687,3.75) 59(6.687,4.25) 60(6.687,4.75)
  rrect25% 0.25x1.475 smd: 21(-4.75,-6.687) 22(-4.25,-6.687) 23(-3.75,-6.687) 24(-3.25,-6.687) 25(-2.75,-6.687) 26(-2.25,-6.687) 27(-1.75,-6.687) 28(-1.25,-6.687) 29(-0.75,-6.687) 30(-0.25,-6.687) 31(0.25,-6.687) 32(0.75,-6.687) 33(1.25,-6.687) 34(1.75,-6.687) 35(2.25,-6.687) 36(2.75,-6.687) 37(3.25,-6.687) 38(3.75,-6.687) 39(4.25,-6.687) 40(4.75,-6.687) 61(4.75,6.687) 62(4.25,6.687) 63(3.75,6.687) 64(3.25,6.687) 65(2.75,6.687) 66(2.25,6.687) 67(1.75,6.687) 68(1.25,6.687) 69(0.75,6.687) 70(0.25,6.687) 71(-0.25,6.687) 72(-0.75,6.687) 73(-1.25,6.687) 74(-1.75,6.687) 75(-2.25,6.687) 76(-2.75,6.687) 77(-3.25,6.687) 78(-3.75,6.687) 79(-4.25,6.687) 80(-4.75,6.687)
F.SilkS:
  region: -6.713,5.135 -7.053,5.605 -6.372,5.605
  lines w0.254: -6.11,-5.135 -6.11,-6.11 -5.135,-6.11 ; -6.11,5.135 -6.11,6.11 -5.135,6.11 ; 5.135,-6.11 6.11,-6.11 6.11,-5.135 ; 5.135,6.11 6.11,6.11 6.11,5.135
Top Assembly:
  lines w0.254: -6,-6 6,-6 6,6 -5,6 -6,5 -6,-6
  text "'.Designator'" at -4.047,-0.84 h1
Top Courtyard:
  lines w0.254: -7.68,-5.13 -6.25,-5.13 -6.25,-6.25 -5.13,-6.25 -5.13,-7.68 5.13,-7.68 5.13,-6.25 6.25,-6.25 6.25,-5.13 7.68,-5.13 7.68,5.13 6.25,5.13 6.25,6.25 5.13,6.25 5.13,7.68 -5.13,7.68 -5.13,6.25 -6.25,6.25 -6.25,5.13 -7.68,5.13 -7.68,-5.13
Top Designator:
  text ".Designator" at -7.618,-0.508 h1.52